# Altium footprint library 503480-1200.PcbLib: 1 footprints
Each footprint in its own frame and in the unit in brackets; x right, y up, seen from the top. Pads: shape width x height; smd on the part's side, far side on the other; paste and mask are expansions set on the pad; w line width, h text height; cw(c..) or ccw(c..) is an arc to the next point about the centre after c.
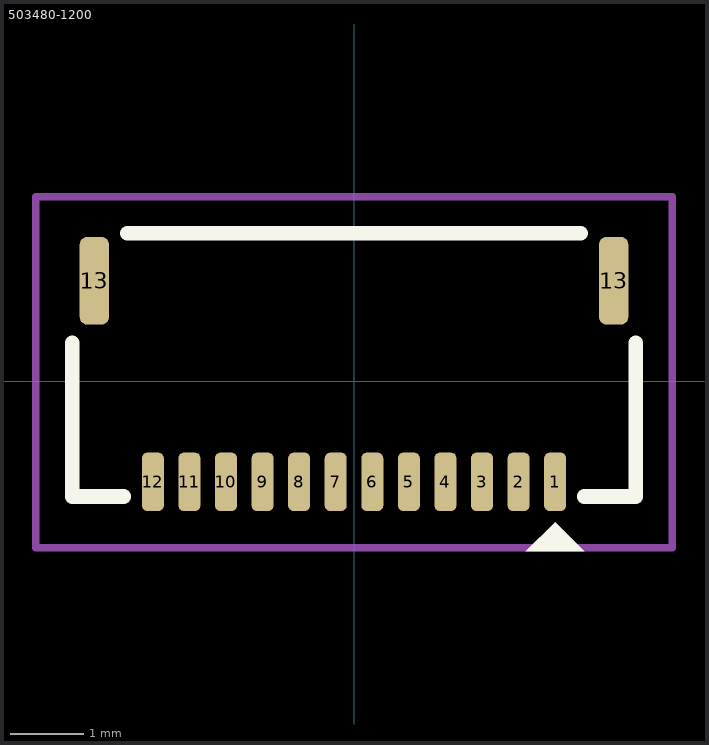
[diagram p0: the footprint, top view; thin cyan lines are the x and y axes]

## 503480-1200 [mm]
pads (14):
  rrect50% 0.3x0.8 smd: 1(2.75,-1.375) 2(2.25,-1.375) 3(1.75,-1.375) 4(1.25,-1.375) 5(0.75,-1.375) 6(0.25,-1.375) 7(-0.25,-1.375) 8(-0.75,-1.375) 9(-1.25,-1.375) 10(-1.75,-1.375) 11(-2.25,-1.375) 12(-2.75,-1.375)
  rrect50% 0.4x1.2 smd: 13(-3.55,1.375) 13(3.55,1.375)
Top Overlay:
  region: 3.15,-2.325 2.35,-2.325 2.75,-1.925
  lines w0.2: -3.85,0.525 -3.85,-1.575 -3.15,-1.575 ; -3.1,2.025 3.1,2.025 ; 3.15,-1.575 3.85,-1.575 3.85,0.525
Top Courtyard:
  lines w0.1: -4.35,-2.275 4.35,-2.275 4.35,2.525 -4.35,2.525 -4.35,-2.275
3D body "5034801200.stp": height 1.85, standoff -0.02, extent -3.85,-1.575 3.85,2.025